# Altium footprint library Murata.PcbLib: 65 footprints (part 1 of 5)
Each footprint in its own frame and in the unit in brackets; x right, y up, seen from the top. Pads: shape width x height; smd on the part's side, far side on the other; paste and mask are expansions set on the pad; w line width, h text height; cw(c..) or ccw(c..) is an arc to the next point about the centre after c.
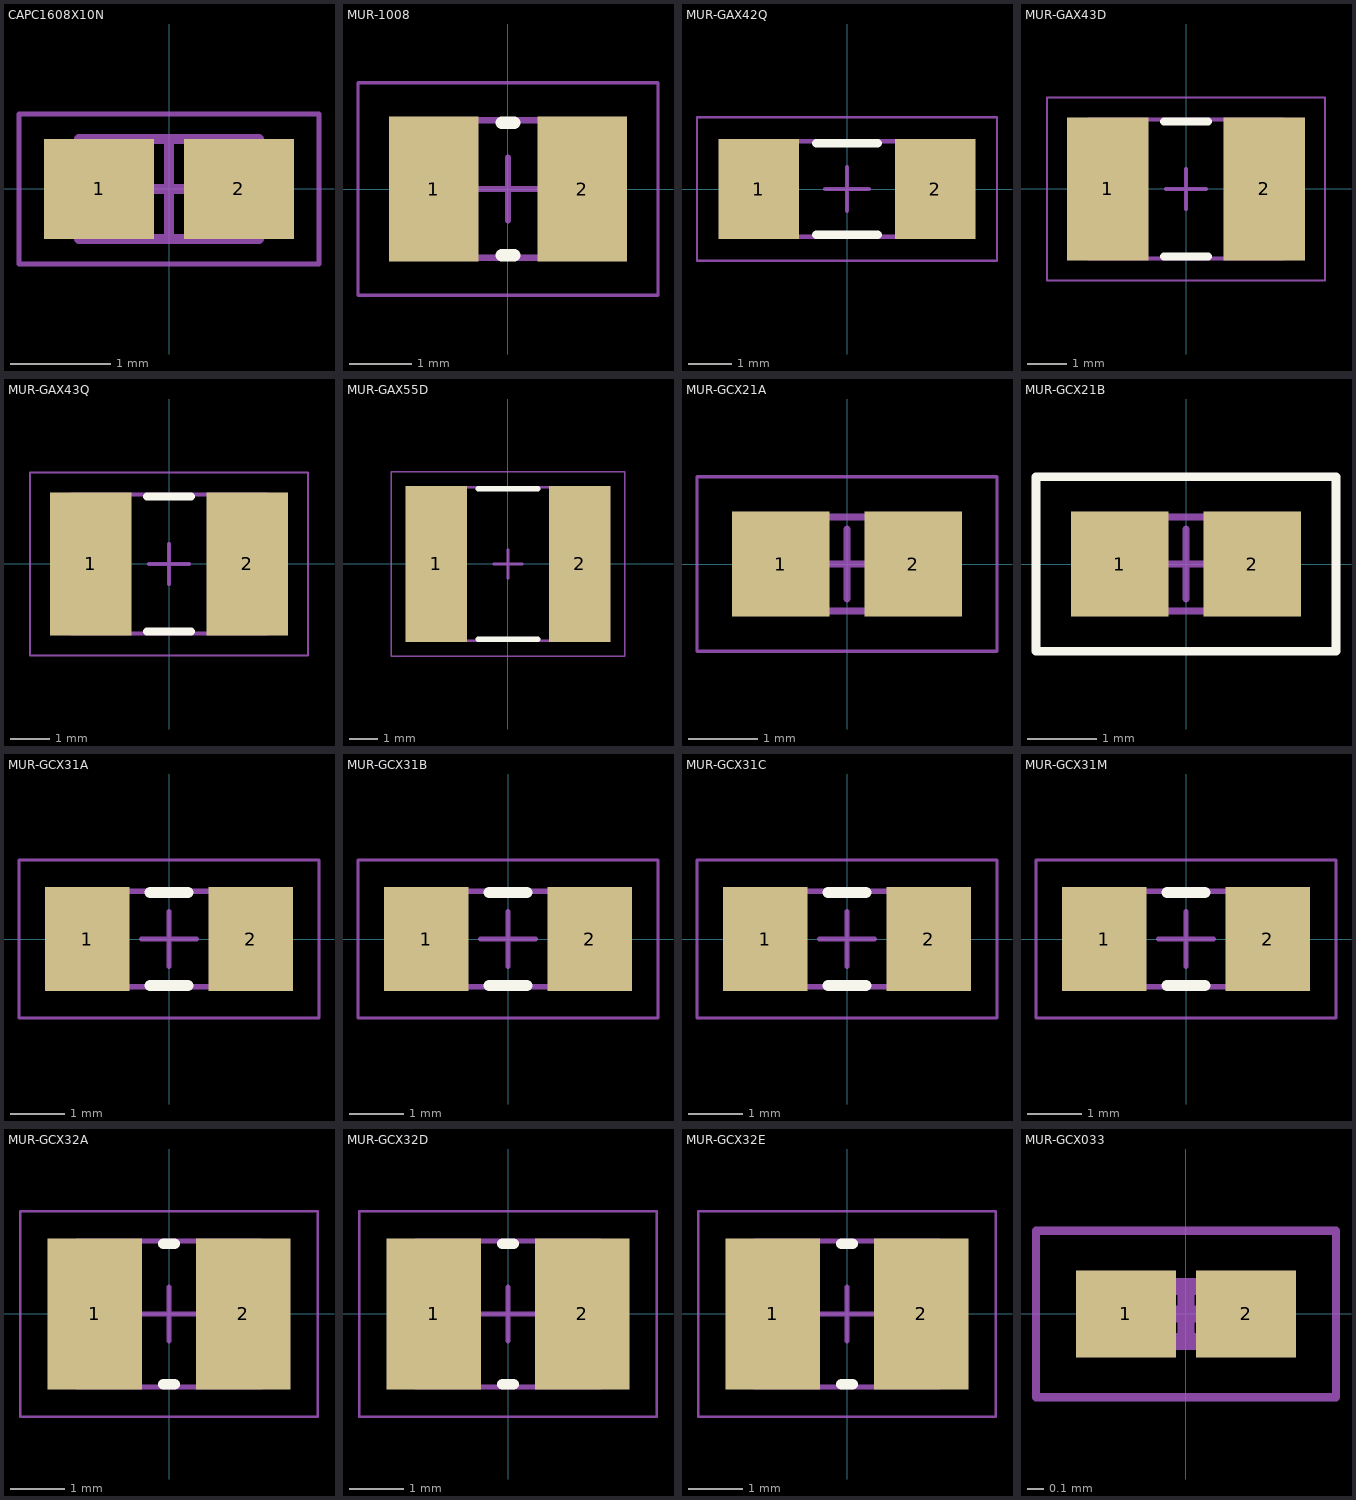
[diagram p0: the footprints below, top view; thin cyan lines are the x and y axes]

## CAPC1608X10N [mm] "Chip Capacitor, 2-Leads, Body 1.60x0.80mm, IPC Medium Density"
height 1
pads (2):
  rect 1.1x1 smd: 1(-0.7,0) 2(0.7,0)
Assembly Top:
  lines w0.1: -0.9,-0.5 0.9,-0.5 0.9,0.5 -0.9,0.5 -0.9,-0.5
Courtyard Top:
  lines w0.05: -1.5,-0.75 1.5,-0.75 1.5,0.75 -1.5,0.75 -1.5,-0.75
  lines w0.1: -0.5,0 0.5,0 ; 0,-0.5 0,0.5
3D body "CAPC1608X10N.step": height 1, standoff 0, extent -0.9,-0.5 0.9,0.5

## MUR-1008 [mm] "Chip Inductor, 2-Leads, Body 2.50x2.00mm, IPC Low Density"
height 1
pads (2):
  rect 1.43x2.32 smd: 1(-1.185,0) 2(1.185,0)
Top Overlay:
  lines w0.2: -0.1,-1.06 0.1,-1.06 ; -0.1,1.06 0.1,1.06
Assembly Top:
  lines w0.1: -1.35,-1.1 1.35,-1.1 1.35,1.1 -1.35,1.1 -1.35,-1.1
Courtyard Top:
  lines w0.05: -2.4,-1.7 2.4,-1.7 2.4,1.7 -2.4,1.7 -2.4,-1.7
  lines w0.1: -0.5,0 0.5,0 ; 0,-0.5 0,0.5
3D body "MUR-1008.step": height 1, standoff 0, extent -1.35,-1.1 1.35,1.1

## MUR-GAX42Q [mm] "Chip Capacitor, 2-Leads, Body 4.50x2.00mm, IPC Low Density"
height 1.7
pads (2):
  rect 1.85x2.3 smd: 1(-2.025,0) 2(2.025,0)
Top Overlay:
  lines w0.2: -0.7,-1.05 0.7,-1.05 ; -0.7,1.05 0.7,1.05
Mechanical 13:
  lines w0.1: -2.4,-1.1 -2.4,1.1 2.4,1.1 2.4,-1.1 -2.4,-1.1
Mechanical 15:
  lines w0.05: -3.45,-1.65 -3.45,1.65 3.45,1.65 3.45,-1.65 -3.45,-1.65
  lines w0.1: -0.5,0 0.5,0 ; 0,-0.5 0,0.5
3D body: height 1.7, standoff 0, extent -1.75,-1.1 1.75,1.1
3D body: height 1.7, standoff 0, extent -2.4,-1.1 -1.75,1.1
3D body: height 1.7, standoff 0, extent 1.75,-1.1 2.4,1.1

## MUR-GAX43D [mm] "Chip Capacitor, 2-Leads, Body 4.50x3.20mm, IPC Low Density"
height 2.2
pads (2):
  rect 2.05x3.6 smd: 1(-1.975,0) 2(1.975,0)
Top Overlay:
  lines w0.2: -0.55,-1.7 0.55,-1.7 ; -0.55,1.7 0.55,1.7
Mechanical 13:
  lines w0.1: -2.45,-1.75 2.45,-1.75 2.45,1.75 -2.45,1.75 -2.45,-1.75
Mechanical 15:
  lines w0.05: -3.5,-2.3 3.5,-2.3 3.5,2.3 -3.5,2.3 -3.5,-2.3
  lines w0.1: -0.5,0 0.5,0 ; 0,-0.5 0,0.5
3D body: height 2.2, standoff 0, extent 1.75,-1.75 2.45,1.75
3D body: height 2.2, standoff 0, extent -2.45,-1.75 -1.75,1.75
3D body: height 2.2, standoff 0, extent -1.75,-1.75 1.75,1.75

## MUR-GAX43Q [mm] "Chip Capacitor, 2-Leads, Body 4.50x3.20mm, IPC Low Density"
height 1.7
pads (2):
  rect 2.05x3.6 smd: 1(-1.975,0) 2(1.975,0)
Top Overlay:
  lines w0.2: -0.55,-1.7 0.55,-1.7 ; -0.55,1.7 0.55,1.7
Mechanical 13:
  lines w0.1: -2.45,-1.75 2.45,-1.75 2.45,1.75 -2.45,1.75 -2.45,-1.75
Mechanical 15:
  lines w0.05: -3.5,-2.3 3.5,-2.3 3.5,2.3 -3.5,2.3 -3.5,-2.3
  lines w0.1: -0.5,0 0.5,0 ; 0,-0.5 0,0.5
3D body: height 1.7, standoff 0, extent 1.75,-1.75 2.45,1.75
3D body: height 1.7, standoff 0, extent -2.45,-1.75 -1.75,1.75
3D body: height 1.7, standoff 0, extent -1.75,-1.75 1.75,1.75

## MUR-GAX55D [mm] "Chip Capacitor, 2-Leads, Body 5.70x5.00mm, IPC Low Density"
height 2.2
pads (2):
  rect 2.15x5.5 smd: 1(-2.525,0) 2(2.525,0)
Top Overlay:
  lines w0.2: -1.05,-2.65 1.05,-2.65 ; -1.05,2.65 1.05,2.65
Mechanical 13:
  lines w0.1: -3.05,-2.7 3.05,-2.7 3.05,2.7 -3.05,2.7 -3.05,-2.7
Mechanical 15:
  lines w0.05: -4.1,-3.25 4.1,-3.25 4.1,3.25 -4.1,3.25 -4.1,-3.25
  lines w0.1: -0.5,0 0.5,0 ; 0,-0.5 0,0.5
3D body: height 2.2, standoff 0, extent 2.3,-2.7 3.05,2.7
3D body: height 2.2, standoff 0, extent -3.05,-2.7 -2.3,2.7
3D body: height 2.2, standoff 0, extent -2.3,-2.7 2.3,2.7

## MUR-GCX21A [mm] "Chip Capacitor, 2-Leads, Body 2.00x1.25mm, IPC Low Density"
height 1.1
pads (2):
  rect 1.4x1.5 smd: 1(-0.95,0) 2(0.95,0)
Mechanical 13:
  lines w0.1: -1.05,-0.675 1.05,-0.675 1.05,0.675 -1.05,0.675 -1.05,-0.675
Mechanical 15:
  lines w0.05: -2.15,-1.25 2.15,-1.25 2.15,1.25 -2.15,1.25 -2.15,-1.25
  lines w0.1: -0.5,0 0.5,0 ; 0,-0.5 0,0.5
3D body: height 1.1, standoff 0, extent 0.6,-0.675 1.05,0.675
3D body: height 1.1, standoff 0, extent -1.05,-0.675 -0.6,0.675
3D body: height 1.1, standoff 0, extent -0.6,-0.675 0.6,0.675

## MUR-GCX21B [mm] "Chip Capacitor, 2-Leads, Body 2.00x1.25mm, IPC Low Density"
height 1.35
pads (2):
  rect 1.4x1.5 smd: 1(-0.95,0) 2(0.95,0)
Top Overlay:
  lines w0.127: -2.15,-1.25 -2.15,1.25 2.15,1.25 2.15,-1.25 -2.15,-1.25
Mechanical 13:
  lines w0.1: -1.05,-0.675 -1.05,0.675 1.05,0.675 1.05,-0.675 -1.05,-0.675
Mechanical 15:
  lines w0.05: -2.15,-1.25 2.15,-1.25 2.15,1.25 -2.15,1.25 -2.15,-1.25
  lines w0.1: -0.5,0 0.5,0 ; 0,-0.5 0,0.5
3D body: height 1.35, standoff 0, extent -0.6,-0.675 0.6,0.675
3D body: height 1.35, standoff 0, extent -1.05,-0.675 -0.6,0.675
3D body: height 1.35, standoff 0, extent 0.6,-0.675 1.05,0.675

## MUR-GCX31A [mm] "Chip Capacitor, 2-Leads, Body 3.20x1.60mm, IPC Low Density"
height 1.1
pads (2):
  rect 1.55x1.9 smd: 1(-1.5,0) 2(1.5,0)
Top Overlay:
  lines w0.2: -0.35,-0.85 0.35,-0.85 ; -0.35,0.85 0.35,0.85
Mechanical 13:
  lines w0.1: -1.675,-0.875 -1.675,0.875 1.675,0.875 1.675,-0.875 -1.675,-0.875
Mechanical 15:
  lines w0.05: -2.75,-1.45 -2.75,1.45 2.75,1.45 2.75,-1.45 -2.75,-1.45
  lines w0.1: -0.5,0 0.5,0 ; 0,-0.5 0,0.5
3D body: height 1.1, standoff 0, extent -1.125,-0.875 1.125,0.875
3D body: height 1.1, standoff 0, extent -1.675,-0.875 -1.125,0.875
3D body: height 1.1, standoff 0, extent 1.125,-0.875 1.675,0.875

## MUR-GCX31B [mm] "Chip Capacitor, 2-Leads, Body 3.20x1.60mm, IPC Low Density"
height 1.35
pads (2):
  rect 1.55x1.9 smd: 1(-1.5,0) 2(1.5,0)
Top Overlay:
  lines w0.2: -0.35,-0.85 0.35,-0.85 ; -0.35,0.85 0.35,0.85
Mechanical 13:
  lines w0.1: -1.675,-0.875 1.675,-0.875 1.675,0.875 -1.675,0.875 -1.675,-0.875
Mechanical 15:
  lines w0.05: -2.75,-1.45 2.75,-1.45 2.75,1.45 -2.75,1.45 -2.75,-1.45
  lines w0.1: -0.5,0 0.5,0 ; 0,-0.5 0,0.5
3D body: height 1.35, standoff 0, extent 1.125,-0.875 1.675,0.875
3D body: height 1.35, standoff 0, extent -1.675,-0.875 -1.125,0.875
3D body: height 1.35, standoff 0, extent -1.125,-0.875 1.125,0.875

## MUR-GCX31C [mm] "Chip Capacitor, 2-Leads, Body 3.20x1.60mm, IPC Low Density"
height 1.8
pads (2):
  rect 1.55x1.9 smd: 1(-1.5,0) 2(1.5,0)
Top Overlay:
  lines w0.2: -0.35,-0.85 0.35,-0.85 ; -0.35,0.85 0.35,0.85
Mechanical 13:
  lines w0.1: -1.675,-0.875 1.675,-0.875 1.675,0.875 -1.675,0.875 -1.675,-0.875
Mechanical 15:
  lines w0.05: -2.75,-1.45 2.75,-1.45 2.75,1.45 -2.75,1.45 -2.75,-1.45
  lines w0.1: -0.5,0 0.5,0 ; 0,-0.5 0,0.5
3D body: height 1.8, standoff 0, extent 1.125,-0.875 1.675,0.875
3D body: height 1.8, standoff 0, extent -1.675,-0.875 -1.125,0.875
3D body: height 1.8, standoff 0, extent -1.125,-0.875 1.125,0.875

## MUR-GCX31M [mm] "Chip Capacitor, 2-Leads, Body 3.20x1.60mm, IPC Low Density"
height 1.25
pads (2):
  rect 1.55x1.9 smd: 1(-1.5,0) 2(1.5,0)
Top Overlay:
  lines w0.2: -0.35,-0.85 0.35,-0.85 ; -0.35,0.85 0.35,0.85
Mechanical 13:
  lines w0.1: -1.675,-0.875 1.675,-0.875 1.675,0.875 -1.675,0.875 -1.675,-0.875
Mechanical 15:
  lines w0.05: -2.75,-1.45 2.75,-1.45 2.75,1.45 -2.75,1.45 -2.75,-1.45
  lines w0.1: -0.5,0 0.5,0 ; 0,-0.5 0,0.5
3D body: height 1.25, standoff 0, extent 1.125,-0.875 1.675,0.875
3D body: height 1.25, standoff 0, extent -1.675,-0.875 -1.125,0.875
3D body: height 1.25, standoff 0, extent -1.125,-0.875 1.125,0.875

## MUR-GCX32A [mm] "Chip Capacitor, 2-Leads, Body 3.20x2.50mm, IPC Low Density"
height 1.1
pads (2):
  rect 1.75x2.8 smd: 1(-1.375,0) 2(1.375,0)
Top Overlay:
  lines w0.2: -0.1,-1.3 0.1,-1.3 ; -0.1,1.3 0.1,1.3
Mechanical 13:
  lines w0.1: -1.7,-1.35 -1.7,1.35 1.7,1.35 1.7,-1.35 -1.7,-1.35
Mechanical 15:
  lines w0.05: -2.75,-1.9 -2.75,1.9 2.75,1.9 2.75,-1.9 -2.75,-1.9
  lines w0.1: -0.5,0 0.5,0 ; 0,-0.5 0,0.5
3D body: height 1.1, standoff 0, extent -1.05,-1.35 1.05,1.35
3D body: height 1.1, standoff 0, extent -1.7,-1.35 -1.05,1.35
3D body: height 1.1, standoff 0, extent 1.05,-1.35 1.7,1.35

## MUR-GCX32D [mm] "Chip Capacitor, 2-Leads, Body 3.20x2.50mm, IPC Low Density"
height 2.2
pads (2):
  rect 1.75x2.8 smd: 1(-1.375,0) 2(1.375,0)
Top Overlay:
  lines w0.2: -0.1,-1.3 0.1,-1.3 ; -0.1,1.3 0.1,1.3
Mechanical 13:
  lines w0.1: -1.7,-1.35 1.7,-1.35 1.7,1.35 -1.7,1.35 -1.7,-1.35
Mechanical 15:
  lines w0.05: -2.75,-1.9 2.75,-1.9 2.75,1.9 -2.75,1.9 -2.75,-1.9
  lines w0.1: -0.5,0 0.5,0 ; 0,-0.5 0,0.5
3D body: height 2.2, standoff 0, extent 1.05,-1.35 1.7,1.35
3D body: height 2.2, standoff 0, extent -1.7,-1.35 -1.05,1.35
3D body: height 2.2, standoff 0, extent -1.05,-1.35 1.05,1.35

## MUR-GCX32E [mm] "Chip Capacitor, 2-Leads, Body 3.20x2.50mm, IPC Low Density"
height 2.7
pads (2):
  rect 1.75x2.8 smd: 1(-1.375,0) 2(1.375,0)
Top Overlay:
  lines w0.2: -0.1,-1.3 0.1,-1.3 ; -0.1,1.3 0.1,1.3
Mechanical 13:
  lines w0.1: -1.7,-1.35 1.7,-1.35 1.7,1.35 -1.7,1.35 -1.7,-1.35
Mechanical 15:
  lines w0.05: -2.75,-1.9 2.75,-1.9 2.75,1.9 -2.75,1.9 -2.75,-1.9
  lines w0.1: -0.5,0 0.5,0 ; 0,-0.5 0,0.5
3D body: height 2.7, standoff 0, extent 1.05,-1.35 1.7,1.35
3D body: height 2.7, standoff 0, extent -1.7,-1.35 -1.05,1.35
3D body: height 2.7, standoff 0, extent -1.05,-1.35 1.05,1.35

## MUR-GCX033 [mm] "Chip Capacitor, 2-Leads, Body 0.60x0.30mm, IPC Low Density"
height 0.33
pads (2):
  rect 0.6x0.52 smd: 1(-0.36,0) 2(0.36,0)
Mechanical 13:
  lines w0.1: -0.315,-0.165 0.315,-0.165 0.315,0.165 -0.315,0.165 -0.315,-0.165
Mechanical 15:
  lines w0.05: -0.9,-0.5 0.9,-0.5 0.9,0.5 -0.9,0.5 -0.9,-0.5
  lines w0.1: -0.165,0 0.165,0 ; 0,-0.165 0,0.165
3D body: height 0.33, standoff 0, extent 0.165,-0.165 0.315,0.165
3D body: height 0.33, standoff 0, extent -0.315,-0.165 -0.165,0.165
3D body: height 0.33, standoff 0, extent -0.165,-0.165 0.165,0.165